# Altium footprint library TO254P482X997X2018-3P.PcbLib: 1 footprints
Each footprint in its own frame and in the unit in brackets; x right, y up, seen from the top. Pads: shape width x height; smd on the part's side, far side on the other; paste and mask are expansions set on the pad; w line width, h text height; cw(c..) or ccw(c..) is an arc to the next point about the centre after c.
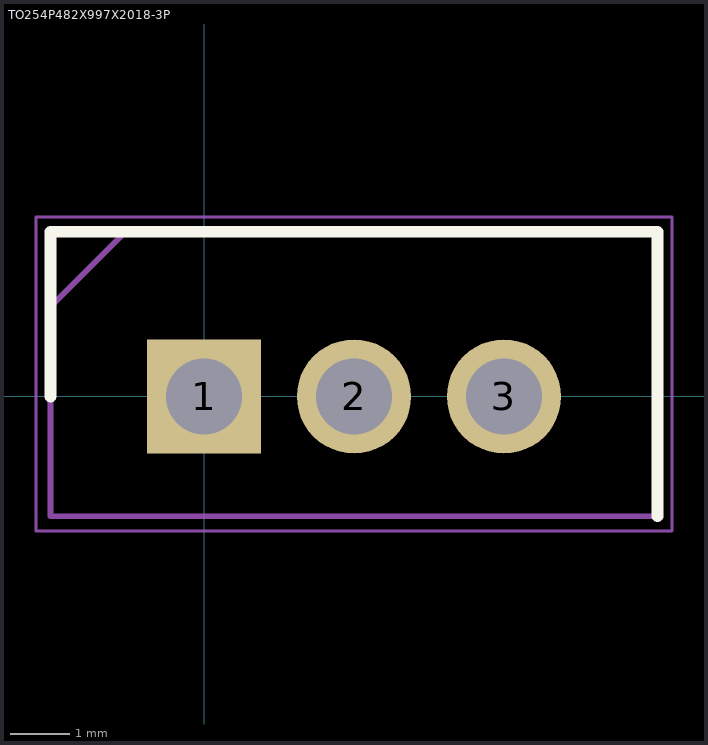
[diagram p0: the footprint, top view; thin cyan lines are the x and y axes]

## TO254P482X997X2018-3P [mm]
pads (3):
  rect 1.935x1.935 / inner round 1.935 / far side rect 1.935x1.935 hole 1.29: 1(0,0)
  round 1.935 hole 1.29: 2(2.54,0) 3(5.08,0)
Top Overlay:
  lines w0.2: -2.6,0 -2.6,2.79 7.68,2.79 7.68,-2.03
Mechanical 15:
  lines w0.1: -2.6,1.52 -1.33,2.79 ; -2.6,-2.03 7.68,-2.03 7.68,2.79 -2.6,2.79 -2.6,-2.03
Mechanical 20:
  lines w0.05: -2.85,-2.28 7.93,-2.28 7.93,3.04 -2.85,3.04 -2.85,-2.28